# Altium schematic symbol library REG103.SchLib: 1 symbol
Pins are listed as number, name and electrical type; pins without a type are passive.

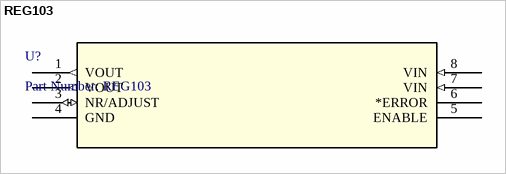
[diagram p0: symbol REG103]

## REG103
designator U?, comment Part Number: REG103
500-mA, 15-V, low-dropout voltage regulator with power good & enable; Manufacturer: Texas Instruments; Manufacturer_Part_Number: REG103UA-A/2K5; Built_By: EMA_UL_Team; Vendor: Texas Instruments; Copyright: Copyright (C) 2018 Accelerated Designs. All rights reserved; RefDes: RefDes; Type: DEV; Value: Value; ComponentLink1Description: Product Page; ComponentLink1URL: https://www.ti.com/product/REG103
footprint D8
footprint D8-L
footprint D8-M
pins: 1 VOUT (out), 2 VOUT (out), 3 NR/ADJUST (io), 4 GND (power), 5 ENABLE, 6 *ERROR, 7 VIN (in), 8 VIN (in)